# Altium schematic symbol library Headers.SchLib: 15 symbols
Pins are listed as number, name and electrical type; pins without a type are passive.

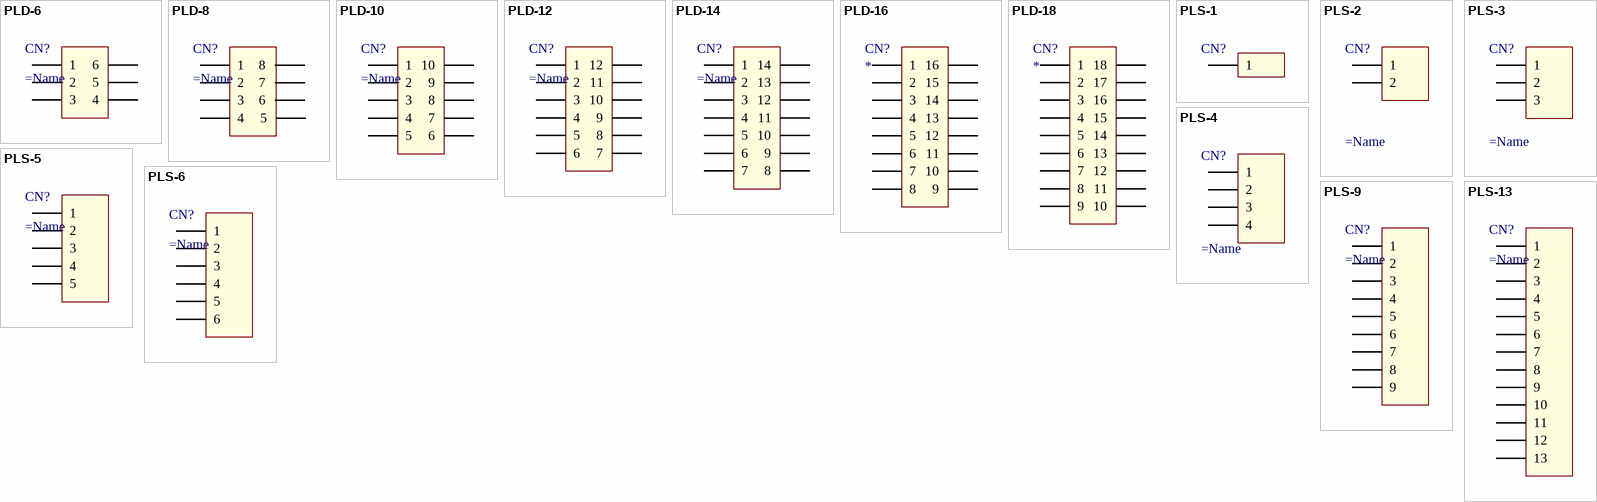
[diagram p0: symbols PLD-6 to PLS-13]

## PLD-6
designator CN?
PLD-6
pins: 1, 2, 3, 4, 5, 6

## PLD-8
designator CN?
PLD-8
pins: 1, 2, 3, 4, 5, 6, 7, 8

## PLD-10
designator CN?
PLD-10
pins: 1, 2, 3, 4, 5, 6, 7, 8, 9, 10

## PLD-12
designator CN?
PLD-12
pins: 1, 2, 3, 4, 5, 6, 7, 8, 9, 10, 11, 12

## PLD-14
designator CN?
PLD-14
pins: 1, 2, 3, 4, 5, 6, 7, 8, 9, 10, 11, 12, 13, 14

## PLD-16
designator CN?
PLD-16
pins: 1, 2, 3, 4, 5, 6, 7, 8, 9, 10, 11, 12, 13, 14, 15, 16

## PLD-18
designator CN?
PLD-18
pins: 1, 2, 3, 4, 5, 6, 7, 8, 9, 10, 11, 12, 13, 14, 15, 16, 17, 18

## PLS-1
designator CN?
PLS-1
pins: 1 "PLS pin"

## PLS-2
designator CN?
PLS-2
pins: 1, 2

## PLS-3
designator CN?
PLS-3
pins: 1, 2, 3

## PLS-4
designator CN?
PLS-4
pins: 1, 2, 3, 4

## PLS-5
designator CN?
PLS-5
pins: 1, 2, 3, 4, 5

## PLS-6
designator CN?
PLS-6
pins: 1, 2, 3, 4, 5, 6

## PLS-9
designator CN?
PLS-9
pins: 1, 2, 3, 4, 5, 6, 7, 8, 9

## PLS-13
designator CN?
PLS-13
pins: 1, 2, 3, 4, 5, 6, 7, 8, 9, 10, 11, 12, 13